# EAGLE library part GRADCONN-6X2-F-DUAL (library 1zac)
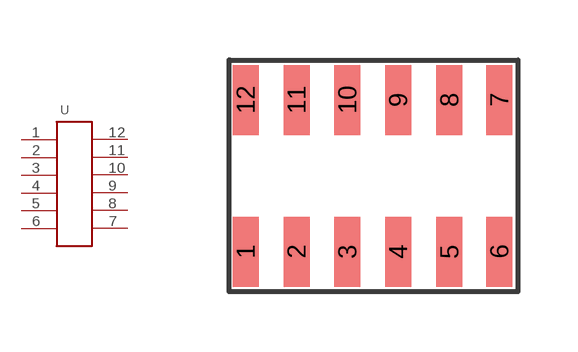
[diagram p11: symbol with the pads of GRADCONN-6X2-F-DUAL; footprint GRADCONN-6X2-F-DUAL]

Designator prefix -

## GRADCONN-6X2-F-DUAL  [GRADCONN-6X2-F-DUAL]
1  P$1
2  P$2
3  P$3
4  P$4
5  P$5
6  P$6
7  P$7
8  P$8
9  P$9
10  P$10
11  P$11
12  P$12

## Footprint GRADCONN-6X2-F-DUAL (pad centres in mm)
smd 0.65 x 1.75: 1 -3.2,-2.1; 2 -1.93,-2.1; 3 -0.66,-2.1; 4 0.61,-2.1; 5 1.89,-2.1; 6 3.14,-2.1; 7 3.14,1.7; 8 1.89,1.7; 9 0.61,1.7; 10 -0.66,1.7; 11 -1.93,1.7; 12 -3.2,1.7